# EAGLE library part TXB0104DR (library lib_paul)
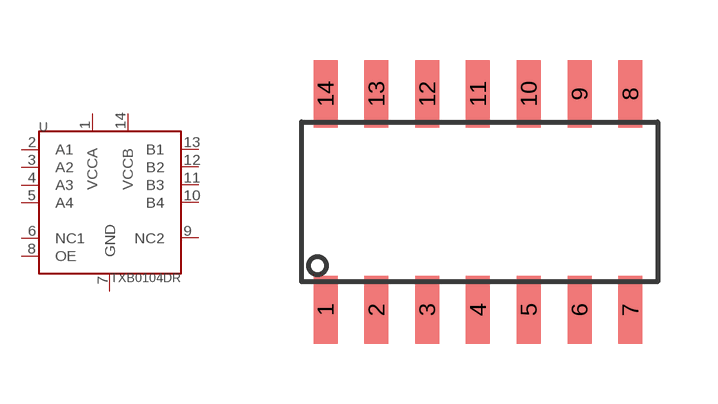
[diagram p14: symbol with the pads of SMD_D14; footprint SMD_D14]

Designator prefix -

## TXB0104DR  [SMD_D14]
1  VCCA
2  A1
3  A2
4  A3
5  A4
6  NC1  nc
7  GND
8  OE
9  NC2  nc
10  B4
11  B3
12  B2
13  B1
14  VCCB

## Footprint SMD_D14 (pad centres in mm)
smd 0.6 x 1.7: 1 0,0; 2 1.27,0; 3 2.54,0; 4 3.81,0; 5 5.08,0; 6 6.35,0; 7 7.62,0; 8 7.62,5.4; 9 6.35,5.4; 10 5.08,5.4; 11 3.81,5.4; 12 2.54,5.4; 13 1.27,5.4; 14 0,5.4